# EAGLE library part LM4819 (library mbonnin)
audio amplifier with shutdown
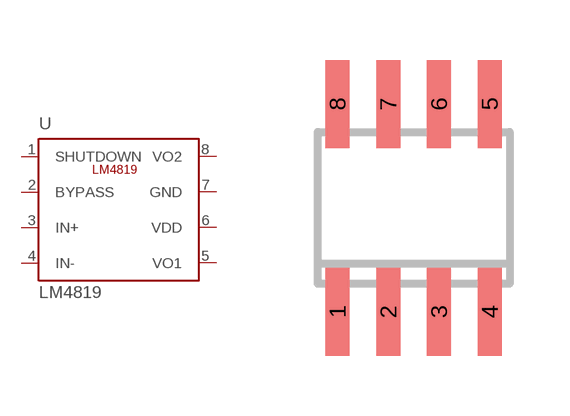
[diagram p0: symbol with the pads of SO08; footprint SO08]

Designator prefix -

## LM4819  [SO08]
1  SHUTDOWN  in
2  BYPASS  in
3  IN+  in
4  IN-  in
5  VO1  out
6  VDD  pwr
7  GND  pwr
8  VO2  out

## Footprint SO08 (pad centres in mm)
smd 0.6 x 2.2: 1 -1.905,-2.6; 2 -0.635,-2.6; 3 0.635,-2.6; 4 1.905,-2.6; 5 1.905,2.6; 6 0.635,2.6; 7 -0.635,2.6; 8 -1.905,2.6